# Altium footprint library MI LIBRERIA.PcbLib: 19 footprints (part 1 of 2)
Each footprint in its own frame and in the unit in brackets; x right, y up, seen from the top. Pads: shape width x height; smd on the part's side, far side on the other; paste and mask are expansions set on the pad; w line width, h text height; cw(c..) or ccw(c..) is an arc to the next point about the centre after c.
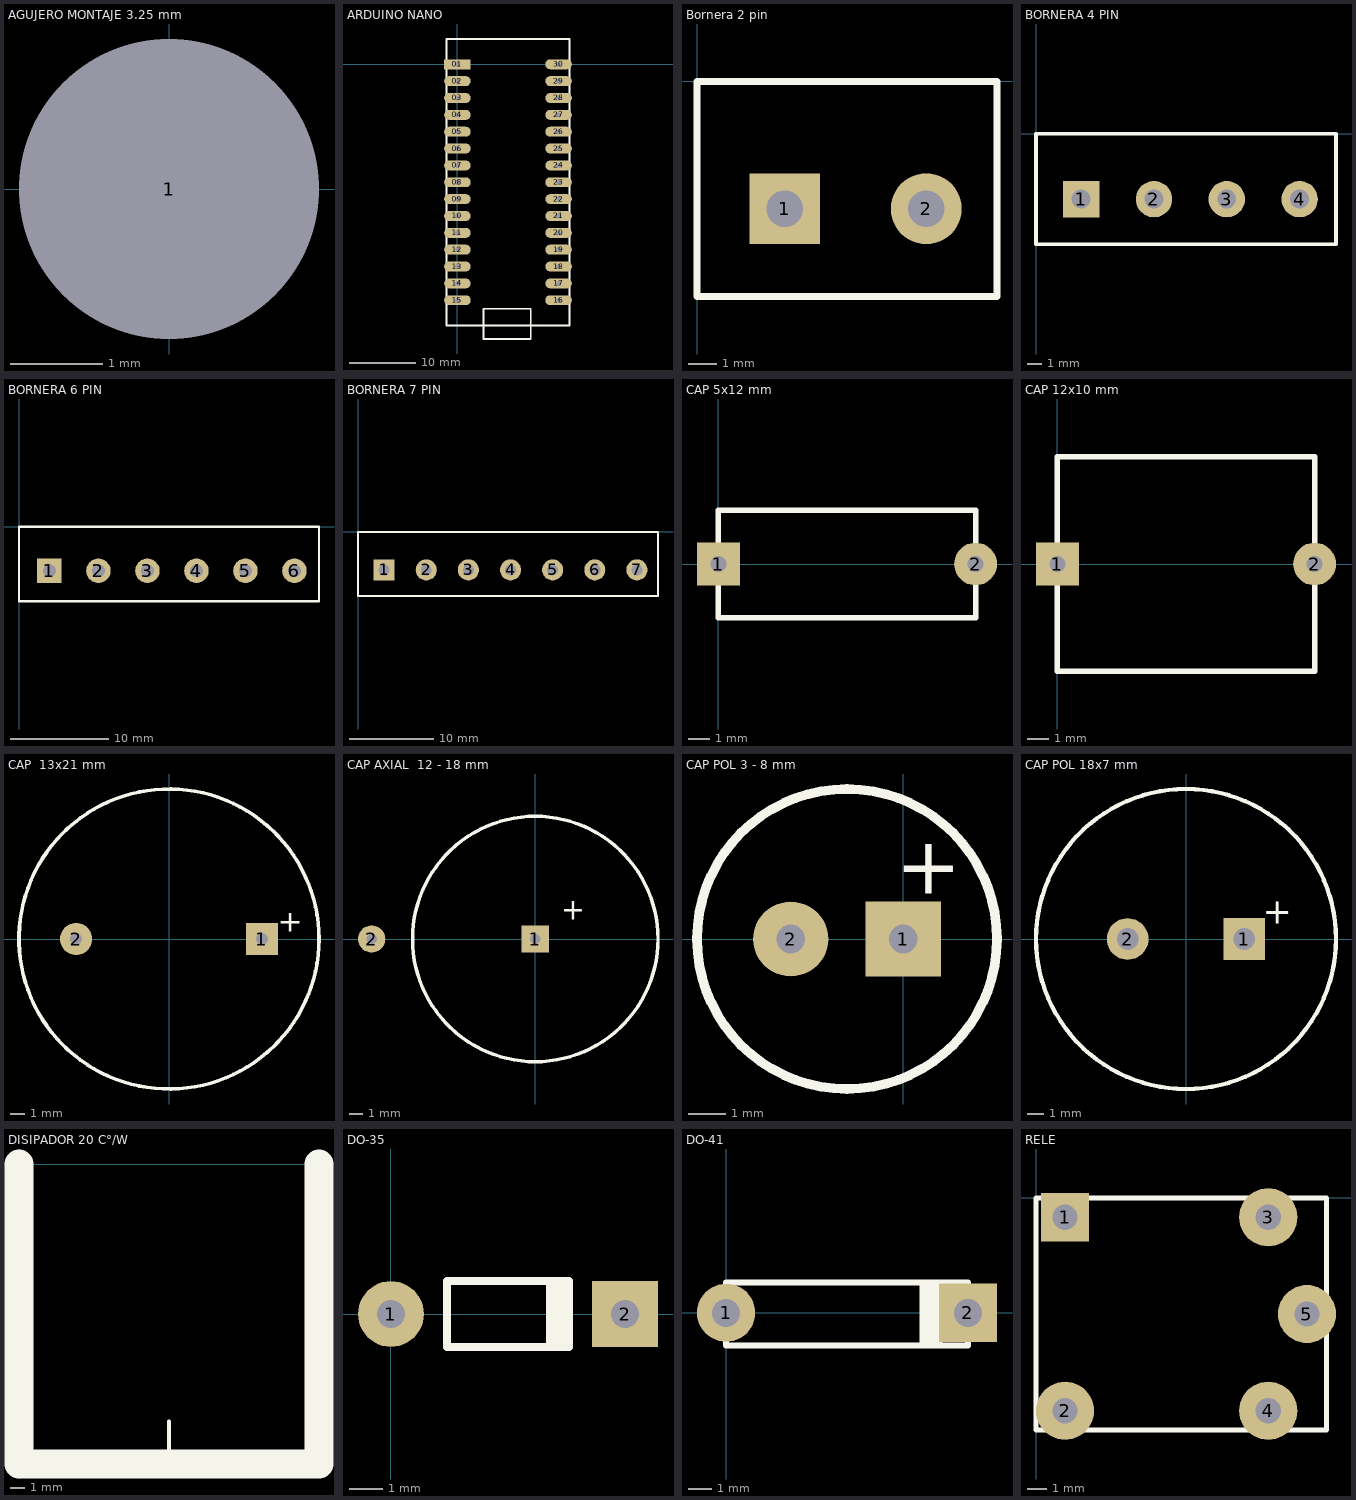
[diagram p0: the footprints below, top view; thin cyan lines are the x and y axes]

## AGUJERO MONTAJE 3.25 mm [mil]
pads (1):
  round 60 hole 127.95: 1(0,0)

## ARDUINO NANO [mm]
pads (30):
  rect 4x1.5 hole 0.762: 01(0,0)
  oval 4x1.5 hole 0.762: 02(0,-2.54) 03(0,-5.08) 04(0,-7.62) 05(0,-10.16) 06(0,-12.7) 07(0,-15.24) 08(0,-17.78) 09(0,-20.32) 10(0,-22.86) 11(0,-25.4) 12(0,-27.94) 13(0,-30.48) 14(0,-33.02) 15(0,-35.56) 16(15.24,-35.56) 17(15.24,-33.02) 18(15.24,-30.48) 19(15.24,-27.94) 20(15.24,-25.4) 21(15.24,-22.86) 22(15.24,-20.32) 23(15.24,-17.78) 24(15.24,-15.24) 25(15.24,-12.7) 26(15.24,-10.16) 27(15.24,-7.62) 28(15.24,-5.08) 29(15.24,-2.54) 30(15.24,0)
Top Overlay:
  lines w0.254: -1.651,-39.37 -1.651,3.81 16.891,3.81 16.891,-39.37 -1.651,-39.37 ; 3.937,-41.402 3.937,-39.37 3.937,-36.83 11.049,-36.83 11.049,-39.37 11.049,-41.402 3.937,-41.402

## Bornera 2 pin [mm]
pads (2):
  rect 2.5x2.5 hole 1.3: 1(3.1,-4.5)
  round 2.5 hole 1.3: 2(8.1,-4.5)
Top Overlay:
  lines w0.254: 0,-7.6 0,0 10.6,0 10.6,-7.6 0,-7.6

## BORNERA 4 PIN [mm]
pads (4):
  rect 2.5x2.5 hole 1.3: 1(3.1,-4.5)
  round 2.5 hole 1.3: 2(8.1,-4.5) 3(13.1,-4.5) 4(18.1,-4.5)
Top Overlay:
  lines w0.254: 0,-7.6 20.6,-7.6 20.6,0 0,0 0,-7.6

## BORNERA 6 PIN [mm]
pads (6):
  rect 2.5x2.5 hole 1.3: 1(3.1,-4.5)
  round 2.5 hole 1.3: 2(8.1,-4.5) 3(13.1,-4.5) 4(18.1,-4.5) 5(23.1,-4.5) 6(28.1,-4.5)
Top Overlay:
  lines w0.254: 0,-7.6 0,0 30.6,0 30.6,-7.6 0,-7.6

## BORNERA 7 PIN [mm]
pads (7):
  rect 2.5x2.5 hole 1.3: 1(3.1,-4.5)
  round 2.5 hole 1.3: 2(8.1,-4.5) 3(13.1,-4.5) 4(18.1,-4.5) 5(23.1,-4.5) 6(28.1,-4.5) 7(33.1,-4.5)
Top Overlay:
  lines w0.254: 0,-7.6 0,0 35.6,0 35.6,-7.6 0,-7.6

## CAP 5x12 mm [mm]
pads (2):
  rect 2x2 hole 0.762: 1(0,0)
  round 2 hole 0.762: 2(12,0)
Top Overlay:
  lines w0.254: 0,-2.5 12,-2.5 12,2.5 0,2.5 0,0 0,-2.5

## CAP 12x10 mm [mm]
pads (2):
  rect 2x2 hole 0.762: 1(0,0)
  round 2 hole 0.762: 2(12,0)
Top Overlay:
  lines w0.254: 0,-5 12,-5 12,5 0,5 0,-5

## CAP  13x21 mm [mm]
pads (2):
  rect 2.25x2.25 hole 0.85: 1(6.5,0)
  round 2.25 hole 0.85: 2(-6.5,0)
Top Overlay:
  circle w0.254: c0,0 r10.5
  text "+" at 7.6,0.5 h1.52

## CAP AXIAL  12 - 18 mm [mm]
pads (2):
  rect 2x2 hole 0.762: 1(0,0)
  round 2 hole 0.762: 2(-12,0)
Top Overlay:
  circle w0.254: c0,0 r9.001
  text "+" at 1.9,1.4 h1.52

## CAP POL 3 - 8 mm [mm]
pads (2):
  rect 2x2 hole 0.762: 1(0,0)
  round 2 hole 0.762: 2(-3,0)
Top Overlay:
  circle w0.254: c-1.5,0 r4
  text "+" at -0.2,1.2 h1.52

## CAP POL 18x7 mm [mm]
pads (2):
  rect 2.5x2.5 hole 1.3: 1(3.5,0)
  round 2.5 hole 1.3: 2(-3.5,0)
Top Overlay:
  circle w0.254: c0,0 r9
  text "+" at 4.6,0.9 h1.52
3D body "User Library-CapAluRadial_D180H355.STEP": height 37.5, standoff -3, extent -9.25,-9.25 9.25,9.25

## DISIPADOR 20 C°/W [mm]
Top Overlay:
  lines w0.25: 10.5,-21 10.5,-18
  lines w2: 0,0 0,-21 21,-21 21,0

## DO-35 [mm]
pads (2):
  round 2 hole 0.85: 1(0,0)
  rect 2x2 hole 0.85: 2(7.1,0)
Top Overlay:
  rectangle: 4.7,-1 5.4,1
  lines w0.25: 1.7,-1 5.4,-1 5.4,1 1.7,1 1.7,-1
3D body "User Library-1n4148-1.STEP": height 1, standoff -5.5, extent -0.15,-1 7.35,1

## DO-41 [mm]
pads (2):
  round 2.5 hole 1.2: 1(0,0)
  rect 2.5x2.5 hole 1.2: 2(10.385,0)
Top Overlay:
  rectangle: 8.3,-1.3 9.3,1.3
  lines w0.25: 0,-1.4 10.385,-1.4 10.385,1.3 0,1.3 0,-1.4
3D body "User Library-DO-41_375mil.STEP": height 2.83, standoff -2.52, extent 0,-1.35 10.385,1.35

## RELE [mm]
pads (5):
  rect 2.5x2.5 hole 1.3: 1(1.5,-1)
  round 3 hole 1.3: 2(1.5,-11) 3(12,-1) 4(12,-11) 5(14,-6)
Top Overlay:
  lines w0.254: 0,-12 15,-12 15,0 0,0 0,-12